# EAGLE library part MCP73871-2AAI/ML (library MCP73871-2AAI_ML)
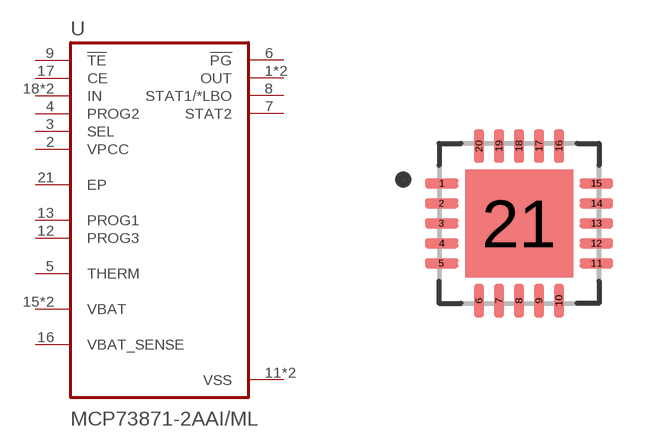
[diagram p0: symbol with the pads of QFN50P400X400X100-21N; footprint QFN50P400X400X100-21N]

Designator prefix U

## MCP73871-2AAI/ML (Availability: Unavailable; Description: Charger IC Lithium Ion/Polymer 20-QFN _4x4_; MF: Microchip; MP: MCP73871-2AAI/ML; Package: QFN-20 Microchip; Price: None)  [QFN50P400X400X100-21N]
1  OUT  out
2  VPCC  in
3  SEL  in
4  PROG2  in
5  THERM
6  !PG  out
7  STAT2  out
8  STAT1/*LBO  out
9  !TE  in
10  VSS  pwr
11  VSS  pwr
12  PROG3
13  PROG1
14  VBAT
15  VBAT
16  VBAT_SENSE
17  CE  in
18  IN  in
19  IN  in
20  OUT  out
21  EP

## Footprint QFN50P400X400X100-21N (pad centres in mm)
smd 0.84 x 0.26: 1 -1.935,1; 2 -1.935,0.5; 3 -1.935,0; 4 -1.935,-0.5; 5 -1.935,-1; 11 1.935,-1; 12 1.935,-0.5; 13 1.935,0; 14 1.935,0.5; 15 1.935,1
smd 0.26 x 0.84: 6 -1,-1.935; 7 -0.5,-1.935; 8 0,-1.935; 9 0.5,-1.935; 10 1,-1.935; 16 1,1.935; 17 0.5,1.935; 18 0,1.935; 19 -0.5,1.935; 20 -1,1.935
smd 2.7 x 2.7: 21 0,0